# Altium schematic symbol library 691 701 510 0xx B.SchLib: 11 symbols
Pins are listed as number, name and electrical type; pins without a type are passive.

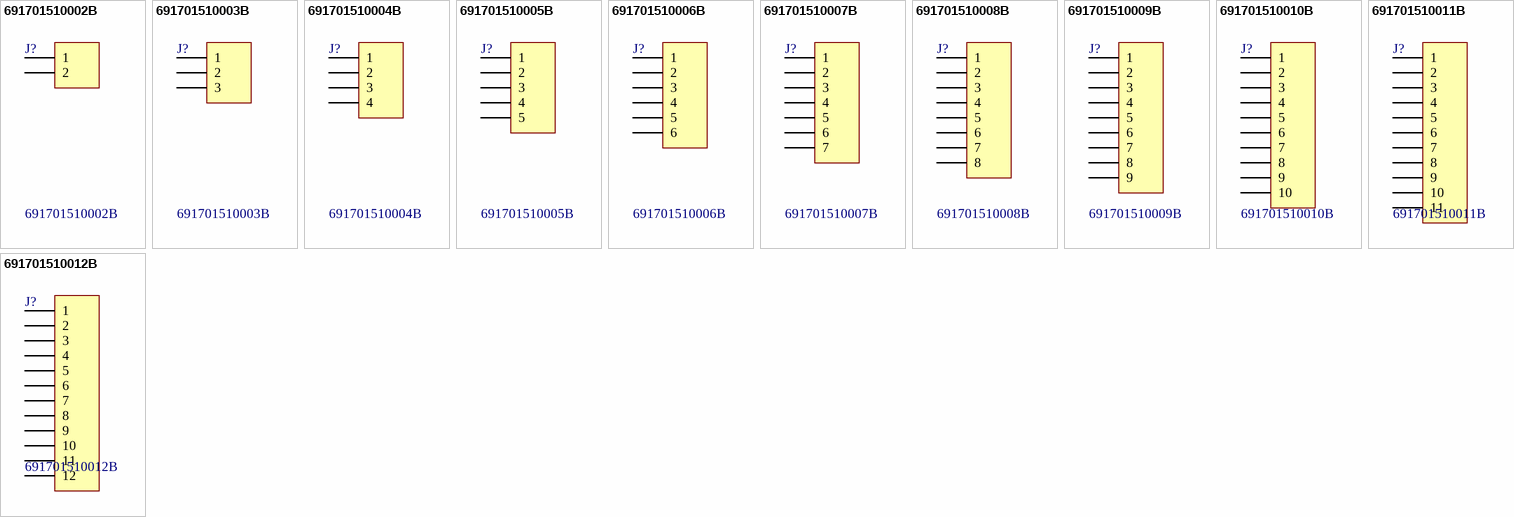
[diagram p0: symbols 691701510002B to 691701510012B]

## 691701510002B
designator J?
WR-TBL Terminal Blocks Serie 7015 B - 5.08 mm THR Type; Manufacturer: Würth Elektronik eiSos GmbH; ComponentLink1 Description: Manufacturer; ComponentLink2 Description: Datasheet; NoPins: 02; Created Date: 9 January 2014; partNo: 691701510002B; ComponentLink1URL: http://www.we-online.com; ComponentLink2URL: http://katalog.we-online.de/em/datasheet/6917015100xxB.pdf; Created by: Karrer Zheng; Value: 691701510002B
footprint 691701510002B (THR - 5,08mm - PCB Vertical Close - 02p)
pins: 1, 2

## 691701510003B
designator J?
WR-TBL Terminal Blocks Serie 7015 B - 5.08 mm THR Type; Manufacturer: Würth Elektronik eiSos GmbH; ComponentLink1 Description: Manufacturer; ComponentLink2 Description: Datasheet; NoPins: 03; Created Date: 9 January 2014; partNo: 691701510003B; ComponentLink1URL: http://www.we-online.com; ComponentLink2URL: http://katalog.we-online.de/em/datasheet/6917015100xxB.pdf; Created by: Karrer Zheng; Value: 691701510003B
footprint 691701510003B (THR - 5,08mm - PCB Vertical Close - 03p)
pins: 1, 2, 3

## 691701510004B
designator J?
WR-TBL Terminal Blocks Serie 7015 B - 5.08 mm THR Type; Manufacturer: Würth Elektronik eiSos GmbH; ComponentLink1 Description: Manufacturer; ComponentLink2 Description: Datasheet; NoPins: 02; Created Date: 9 January 2014; partNo: 691701510004B; ComponentLink1URL: http://www.we-online.com; ComponentLink2URL: http://katalog.we-online.de/em/datasheet/6917015100xxB.pdf; Created by: Karrer Zheng; Value: 691701510004B
footprint 691701510004B (THR - 5,08mm - PCB Vertical Close - 04p)
pins: 1, 2, 3, 4

## 691701510005B
designator J?
WR-TBL Terminal Blocks Serie 7015 B - 5.08 mm THR Type; Manufacturer: Würth Elektronik eiSos GmbH; ComponentLink1 Description: Manufacturer; ComponentLink2 Description: Datasheet; NoPins: 05; Created Date: 9 January 2014; partNo: 691701510005B; ComponentLink1URL: http://www.we-online.com; ComponentLink2URL: http://katalog.we-online.de/em/datasheet/6917015100xxB.pdf; Created by: Karrer Zheng; Value: 691701510005B
footprint 691701510005B (THR - 5,08mm - PCB Vertical Close - 05p)
pins: 1, 2, 3, 4, 5

## 691701510006B
designator J?
WR-TBL Terminal Blocks Serie 7015 B - 5.08 mm THR Type; Manufacturer: Würth Elektronik eiSos GmbH; ComponentLink1 Description: Manufacturer; ComponentLink2 Description: Datasheet; NoPins: 06; Created Date: 9 January 2014; partNo: 691701510006B; ComponentLink1URL: http://www.we-online.com; ComponentLink2URL: http://katalog.we-online.de/em/datasheet/6917015100xxB.pdf; Created by: Karrer Zheng; Value: 691701510006B
footprint 691701510006B (THR - 5,08mm - PCB Vertical Close - 06p)
pins: 1, 2, 3, 4, 5, 6

## 691701510007B
designator J?
WR-TBL Terminal Blocks Serie 7015 B - 5.08 mm THR Type; Manufacturer: Würth Elektronik eiSos GmbH; ComponentLink1 Description: Manufacturer; ComponentLink2 Description: Datasheet; NoPins: 07; Created Date: 9 January 2014; partNo: 691701510007B; ComponentLink1URL: http://www.we-online.com; ComponentLink2URL: http://katalog.we-online.de/em/datasheet/6917015100xxB.pdf; Created by: Karrer Zheng; Value: 691701510007B
footprint 691701510007B (THR - 5,08mm - PCB Vertical Close - 07p)
pins: 1, 2, 3, 4, 5, 6, 7

## 691701510008B
designator J?
WR-TBL Terminal Blocks Serie 7015 B - 5.08 mm THR Type; Manufacturer: Würth Elektronik eiSos GmbH; ComponentLink1 Description: Manufacturer; ComponentLink2 Description: Datasheet; NoPins: 08; Created Date: 9 January 2014; partNo: 691701510008B; ComponentLink1URL: http://www.we-online.com; ComponentLink2URL: http://katalog.we-online.de/em/datasheet/6917015100xxB.pdf; Created by: Karrer Zheng; Value: 691701510008B
footprint 691701510008B (THR - 5,08mm - PCB Vertical Close - 08p)
pins: 1, 2, 3, 4, 5, 6, 7, 8

## 691701510009B
designator J?
WR-TBL Terminal Blocks Serie 7015 B - 5.08 mm THR Type; Manufacturer: Würth Elektronik eiSos GmbH; ComponentLink1 Description: Manufacturer; ComponentLink2 Description: Datasheet; NoPins: 09; Created Date: 9 January 2014; partNo: 691701510009B; ComponentLink1URL: http://www.we-online.com; ComponentLink2URL: http://katalog.we-online.de/em/datasheet/6917015100xxB.pdf; Created by: Karrer Zheng; Value: 691701510009B
footprint 691701510009B (THR - 5,08mm - PCB Vertical Close - 09p)
pins: 1, 2, 3, 4, 5, 6, 7, 8, 9

## 691701510010B
designator J?
WR-TBL Terminal Blocks Serie 7015 B - 5.08 mm THR Type; Manufacturer: Würth Elektronik eiSos GmbH; ComponentLink1 Description: Manufacturer; ComponentLink2 Description: Datasheet; NoPins: 10; Created Date: 9 January 2014; partNo: 691701510010B; ComponentLink1URL: http://www.we-online.com; ComponentLink2URL: http://katalog.we-online.de/em/datasheet/6917015100xxB.pdf; Created by: Karrer Zheng; Value: 691701510010B
footprint 691701510010B (THR - 5,08mm - PCB Vertical Close - 10p)
pins: 1, 2, 3, 4, 5, 6, 7, 8, 9, 10

## 691701510011B
designator J?
WR-TBL Terminal Blocks Serie 7015 B - 5.08 mm THR Type; Manufacturer: Würth Elektronik eiSos GmbH; ComponentLink1 Description: Manufacturer; ComponentLink2 Description: Datasheet; NoPins: 11; Created Date: 9 January 2014; partNo: 691701510011B; ComponentLink1URL: http://www.we-online.com; ComponentLink2URL: http://katalog.we-online.de/em/datasheet/6917015100xxB.pdf; Created by: Karrer Zheng; Value: 691701510011B
footprint 691701510011B (THR - 5,08mm - PCB Vertical Close - 11p)
pins: 1, 2, 3, 4, 5, 6, 7, 8, 9, 10, 11

## 691701510012B
designator J?
WR-TBL Terminal Blocks Serie 7015 B - 5.08 mm THR Type; Manufacturer: Würth Elektronik eiSos GmbH; ComponentLink1 Description: Manufacturer; ComponentLink2 Description: Datasheet; NoPins: 12; Created Date: 9 January 2014; partNo: 691701510012B; ComponentLink1URL: http://www.we-online.com; ComponentLink2URL: http://katalog.we-online.de/em/datasheet/6917015100xxB.pdf; Created by: Karrer Zheng; Value: 691701510012B
footprint 691701510012B (THR - 5,08mm - PCB Vertical Close - 12p)
pins: 1, 2, 3, 4, 5, 6, 7, 8, 9, 10, 11, 12